# EAGLE library part AB0805 (library AB0805)
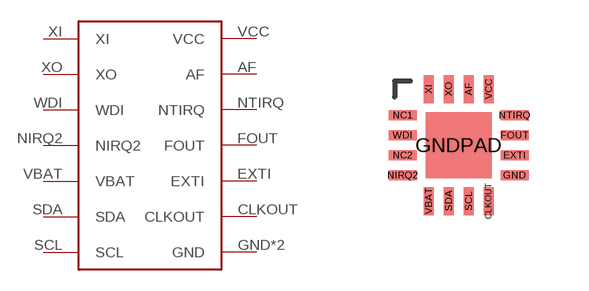
[diagram p0: symbol with the pads of QFN16; footprint QFN16]

Designator prefix -

## AB0805  [QFN16]
AF  AF
CLKOUT  CLKOUT
EXTI  EXTI
FOUT  FOUT
GND  GND
GNDPAD  GND
NIRQ2  NIRQ2
NTIRQ  NTIRQ
SCL  SCL
SDA  SDA
VBAT  VBAT
VCC  VCC
WDI  WDI
XI  XI
XO  XO

## Footprint QFN16 (pad centres in mm)
smd 0.25 x 0.7: AF 0.25,1.4; CLKOUT 0.75,-1.4; SCL 0.25,-1.4; SDA -0.25,-1.4; VBAT -0.75,-1.4; VCC 0.75,1.4; XI -0.75,1.4; XO -0.25,1.4
smd 0.7 x 0.25: EXTI 1.4,-0.25; FOUT 1.4,0.25; GND 1.4,-0.75; NC1 -1.4,0.75; NC2 -1.4,-0.25; NIRQ2 -1.4,-0.75; NTIRQ 1.4,0.75; WDI -1.4,0.25
smd 1.65 x 1.65: GNDPAD 0,0